# Altium schematic symbol library WL-STSW.SchLib: 1 symbol
Pins are listed as number, name and electrical type; pins without a type are passive.

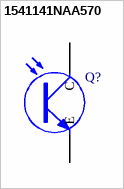
[diagram p0: symbol 1541141NAA570]

## 1541141NAA570
designator Q?  (value not drawn)
WL-STSW SMT Phototransistor Sideview Waterclear, size 1104, 400-1100nm, 2.5mA, 150°; Manufacturer: Wurth Elektronik; Case/Size Code: 1104; Chip Technology: Si; Collector Current Min: 0.9mA; Collector-Emitter Dark Current: 100nA; Polarity: NPN Phototransistor; Range of Spectral Bandwidth Min: 400nm; Range of Spectral Bandwidth Max: 1100nm; Wavelength of Peak Sensitivity: 940nm; ComponentLink1Description: Website Link; ComponentLink1URL: https://www.we-online.com/redexpert/article/1541141NAA570?ad; ComponentLink2Description: Datasheet Link; ComponentLink2URL: https://www.we-online.com/redexpert/spec/1541141NAA570?ad; Manufacturer Part Number: 1541141NAA570; Category: Phototransistors; Match Code: WL-STSW; Mount: Surface Mount; Operating Temperature Max: 85°C; Operating Temperature Min: -40°C; Packaging: Tape and Reel; Length: 3mm; Width: 1mm; Height: 2mm; Collector Current: 2.5mA; Viewing Angle: 150°
footprint WL-STSW_1104
pins: 1 C, 2 E